# Altium footprint library MarvinPcbLib1.PcbLib: 5 footprints
Each footprint in its own frame and in the unit in brackets; x right, y up, seen from the top. Pads: shape width x height; smd on the part's side, far side on the other; paste and mask are expansions set on the pad; w line width, h text height; cw(c..) or ccw(c..) is an arc to the next point about the centre after c.
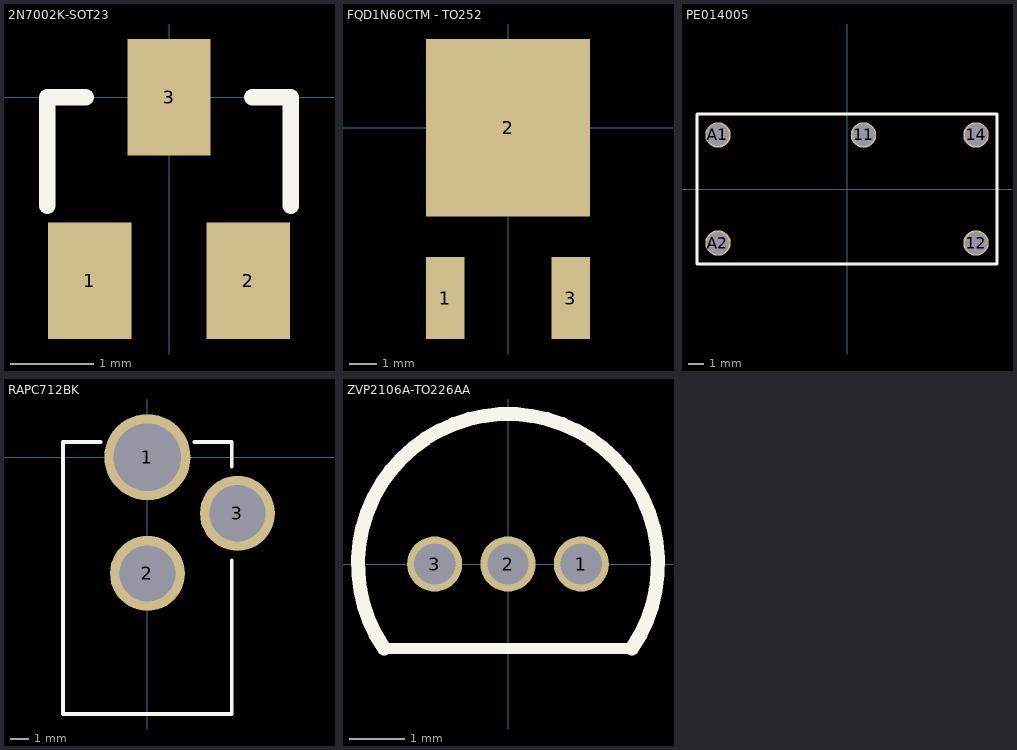
[diagram p0: the footprints below, top view; thin cyan lines are the x and y axes]

## 2N7002K-SOT23 [mm] "MOSFET N 2N7002K"
pads (3):
  rect 1x1.4 smd: 1(-0.95,-2.2) 2(0.95,-2.2) 3(0,0)
Top Overlay:
  lines w0.2: -1.46,-1.3 -1.46,0 -1,0 ; 1,0 1.46,0 1.46,-1.3

## FQD1N60CTM - TO252 [mm] "MOSFET N FQD1N60CTM"
pads (3):
  rect 1.4x3 smd: 1(-2.3,-6.25) 3(2.3,-6.25)
  rect 6x6.5 smd: 2(0,0)

## PE014005 [mm] "RELAIS PE014005"
pads (5):
  round 1.7 hole 1.5: 11(1.1,3.6) 12(8.6,-3.6) 14(8.6,3.6) A1(-8.6,3.6) A2(-8.6,-3.6)
Top Overlay:
  lines w0.2: -10,-5 -10,5 10,5 10,-5 -10,-5

## RAPC712BK [mm] "PRISE JACK RAPC712BK"
pads (3):
  round 4.6 hole 3.6: 1(0,0)
  round 4 hole 3: 2(0,-6.2) 3(4.8,-3)
Top Overlay:
  lines w0.2: -2.5,0.8 -4.5,0.8 -4.5,-13.7 4.5,-13.7 4.5,-5.5 ; 2.5,0.8 4.5,0.8 4.5,-0.5

## ZVP2106A-TO226AA [mm] "MOSFET P - ZVP2106A"
pads (3):
  round 1 hole 0.75: 1(1.33,0) 2(0,0) 3(-1.33,0)
Top Overlay:
  lines w0.2: -2.25,-1.53 2.25,-1.53
  lines w0.254: -2.25,-1.53 cw(c0,0) 2.25,-1.53